# EAGLE library part SIGNAL_CONNECTOR (library myparts)
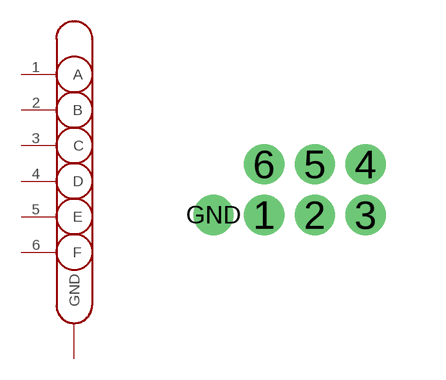
[diagram p21: symbol with the pads of SIGNEL_CONNECTOR; footprint SIGNEL_CONNECTOR]

Designator prefix -

## SIGNAL_CONNECTOR  [SIGNEL_CONNECTOR]
1  A
2  B
3  C
4  D
5  E
6  F
GND  GND

## Footprint SIGNEL_CONNECTOR (pad centres in mm)
drill 0.5: 1 -2.54,0; 2 -1.27,0; 3 0,0; 4 0,1.27; 5 -1.27,1.27; 6 -2.54,1.27; GND -3.81,0